# EAGLE library part VPP24-100 (library KVB-transformers)
PWR XFMR LAMINATED 2.5VA TH
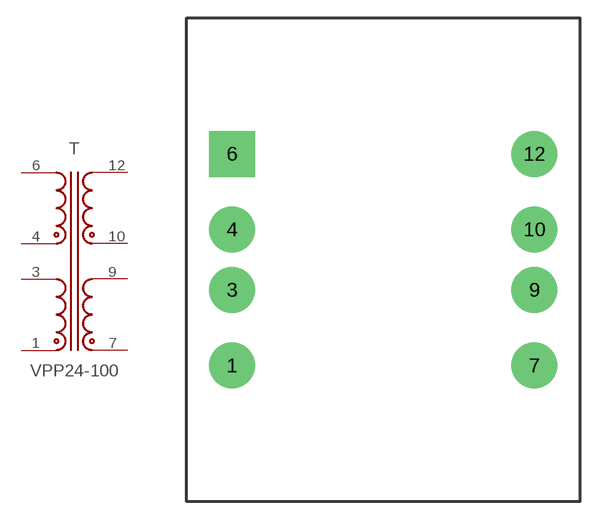
[diagram p0: symbol with the pads of VPP24-100; footprint VPP24-100]

Designator prefix T

## VPP24-100 (MAN-PART_NUM: VPP24-100; MANUFACTURER: Triad Magnetics)  [VPP24-100]
1  1
3  3
4  4
6  6
7  7
9  9
10  10
12  12

## Footprint VPP24-100 (pad centres in mm)
drill 2.845: 1 -12.7,-8.89; 3 -12.7,-2.54; 4 -12.7,2.54; 7 12.7,-8.89; 9 12.7,-2.54; 10 12.7,2.54; 12 12.7,8.89
drill 2.845 square: 6 -12.7,8.89